# Altium footprint library PCB - LEADLESS - SON - TI SON-8 Q3.PCBLIB: 1 footprints
Each footprint in its own frame and in the unit in brackets; x right, y up, seen from the top. Pads: shape width x height; smd on the part's side, far side on the other; paste and mask are expansions set on the pad; w line width, h text height; cw(c..) or ccw(c..) is an arc to the next point about the centre after c.
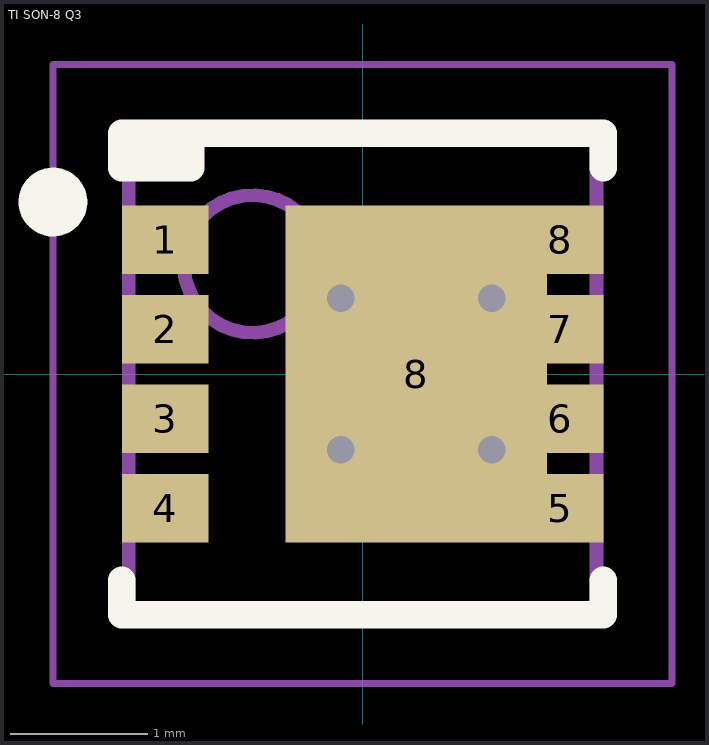
[diagram p0: the footprint, top view; thin cyan lines are the x and y axes]

## TI SON-8 Q3 [mm] "SON, 8-Leads, Body 3.30x3.30mm, Pitch 0.65mm, Thermal Pad 1.90x2.45mm, IPC Medium Density"
height 1.1
pads (9):
  rect 0.63x0.5 smd paste-3: 1(-1.435,0.975) 2(-1.435,0.325) 3(-1.435,-0.325) 4(-1.435,-0.975) 5(1.435,-0.975) 6(1.435,-0.325) 7(1.435,0.325) 8(1.435,0.975)
  rect 1.9x2.45 smd paste-3: 8(0.39,0)
via 0.94,-0.55 diameter 0.5 hole 0.2
via -0.16,-0.55 diameter 0.5 hole 0.2
via 0.94,0.55 diameter 0.5 hole 0.2
via -0.16,0.55 diameter 0.5 hole 0.2
Top Overlay:
  circle w0.25: c-2.25,1.25 r0.125
  rectangle: -1.75,1.5 -1.25,1.75
  lines w0.2: -1.75,-1.5 -1.75,-1.75 1.75,-1.75 1.75,-1.5 ; -1.25,1.75 -1.25,1.5 -1.75,1.5 -1.75,1.75 1.75,1.75 1.75,1.5
Top Paste:
  rectangle: 1.21,-1.13 1.66,-0.82
  region: -1.21,-0.82 -1.66,-0.82 -1.66,-1.13 -1.21,-1.13
  rectangle: 1.21,0.17 1.66,0.48
  region: -1.21,0.48 -1.66,0.48 -1.66,0.17 -1.21,0.17
  region: -1.21,1.13 -1.66,1.13 -1.66,0.82 -1.21,0.82
  region: -1.21,-0.17 -1.66,-0.17 -1.66,-0.48 -1.21,-0.48
  rectangle: 1.21,-0.48 1.66,-0.17
  rectangle: 1.21,0.82 1.66,1.13
  rectangle: -0.46,-1.27 0.985,-0.125
  rectangle: -0.46,0.125 0.985,1.27
Mechanical 13:
  circle w0.1: c-0.8,0.8 r0.5
  lines w0.1: -1.7,-1.7 1.7,-1.7 1.7,1.7 -1.7,1.7 -1.7,-1.7
Mechanical 15:
  lines w0.05: -2.25,-2.25 2.25,-2.25 2.25,2.25 -2.25,2.25 -2.25,-2.25
  lines w0.1: -0.5,0 0.5,0 ; 0,-0.5 0,0.5
3D body "TI SON-8 Q3.step": height 1.1, standoff 0, extent -1.71,-1.7 1.71,1.7